# EAGLE library part HC-12_FOOTPRINT (library hc12_433mhz)
HC-12 433MHz module footprint MCHFIX is for mechanical fix pin which is NC but on this file connected to GND https://github.com/meendiz/hc-12_si4463/
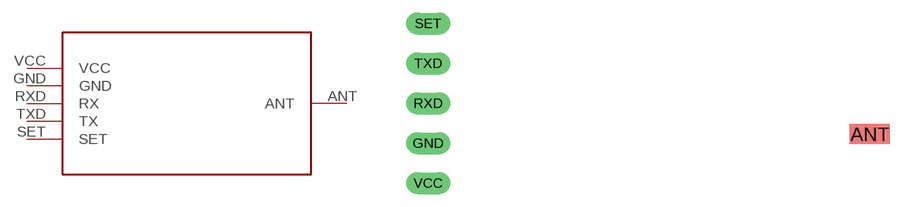
[diagram p0: symbol with the pads of HC-12_FOOTPRINT; footprint HC-12_FOOTPRINT]

Designator prefix -

## HC-12_FOOTPRINT  [HC-12_FOOTPRINT]
ANT  ANT
GND  GND
RXD  RX
SET  SET
TXD  TX
VCC  VCC

## Footprint HC-12_FOOTPRINT (pad centres in mm)
smd 2.54 x 1.27: ANT 29.3,4.4
drill 0.9 pad 1.27 long: GND 1.27,3.81; RXD 1.27,6.35; SET 1.27,11.43; TXD 1.27,8.89; VCC 1.27,1.27